# EAGLE library part TDA8138 (library st-microelectronics)
The TDA8138 is a monolithic dual positive voltage regulator designed to provide fixed precision output voltages of 5.1V and 12V at currents up to 1A.
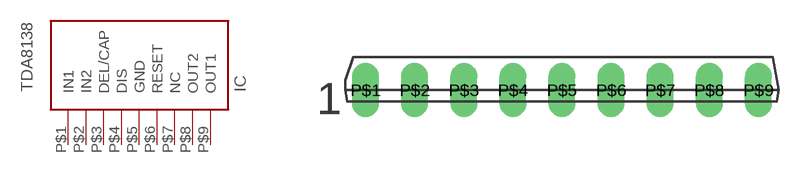
[diagram p56: symbol with the pads of SIP-9; footprint SIP-9]

Designator prefix IC

## TDA8138  [SIP-9]
P$1  IN1  in
P$2  IN2  in
P$3  DEL/CAP
P$4  DIS
P$5  GND  pwr
P$6  RESET
P$7  NC  nc
P$8  OUT2  out
P$9  OUT1  out

## Footprint SIP-9 (pad centres in mm)
drill 0.9 long: P$1 -10.16,0; P$2 -7.62,0; P$3 -5.08,0; P$4 -2.54,0; P$5 0,0; P$6 2.54,0; P$7 5.08,0; P$8 7.62,0; P$9 10.16,0